# Altium footprint library TO-220-3.PcbLib: 1 footprints
Each footprint in its own frame and in the unit in brackets; x right, y up, seen from the top. Pads: shape width x height; smd on the part's side, far side on the other; paste and mask are expansions set on the pad; w line width, h text height; cw(c..) or ccw(c..) is an arc to the next point about the centre after c.
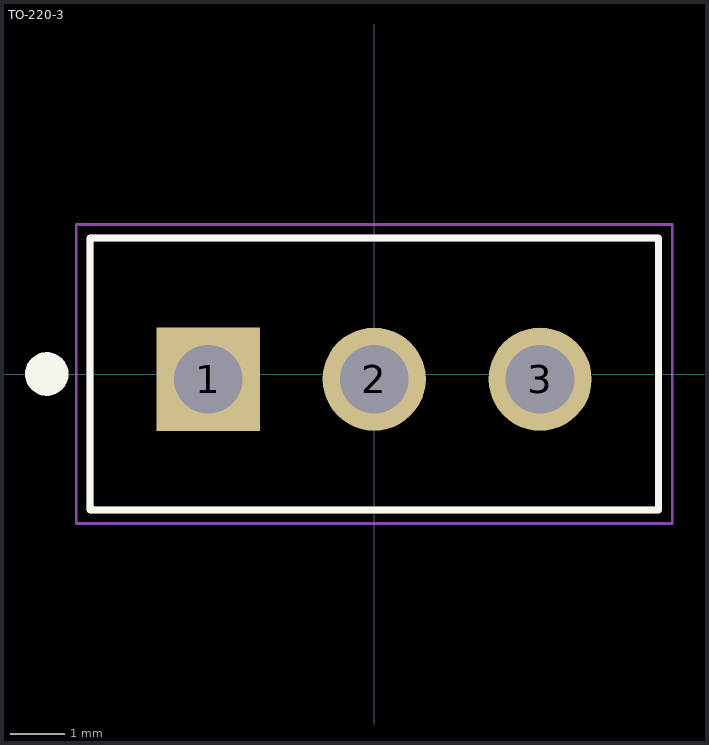
[diagram p0: the footprint, top view; thin cyan lines are the x and y axes]

## TO-220-3 [mm]
pads (3):
  rect 1.89x1.89 / inner round 1.89 / far side rect 1.89x1.89 hole 1.26: 1(-3.04,-0.095)
  round 1.89 hole 1.26: 2(0,-0.095) 3(3.04,-0.095)
Top Overlay:
  circle w0.4: c-6,0 r0.2
  lines w0.127: -5.21,-2.49 5.21,-2.49 5.21,2.49 -5.21,2.49 -5.21,-2.49
Assembly Top:
  circle w0.4: c-3.04,-0.095 r0.2
  lines w0.127: -5.21,-2.49 5.21,-2.49 5.21,2.49 -5.21,2.49 -5.21,-2.49
Courtyard Top:
  lines w0.05: -5.46,-2.74 -5.46,2.74 5.46,2.74 5.46,-2.74 -5.46,-2.74
3D body "step_temp.STEP": height 19.22, standoff -9.68, extent -5.1,-1.488 5.1,3.013